# Altium footprint library SMD_Lib.PcbLib: 7 footprints
Each footprint in its own frame and in the unit in brackets; x right, y up, seen from the top. Pads: shape width x height; smd on the part's side, far side on the other; paste and mask are expansions set on the pad; w line width, h text height; cw(c..) or ccw(c..) is an arc to the next point about the centre after c.
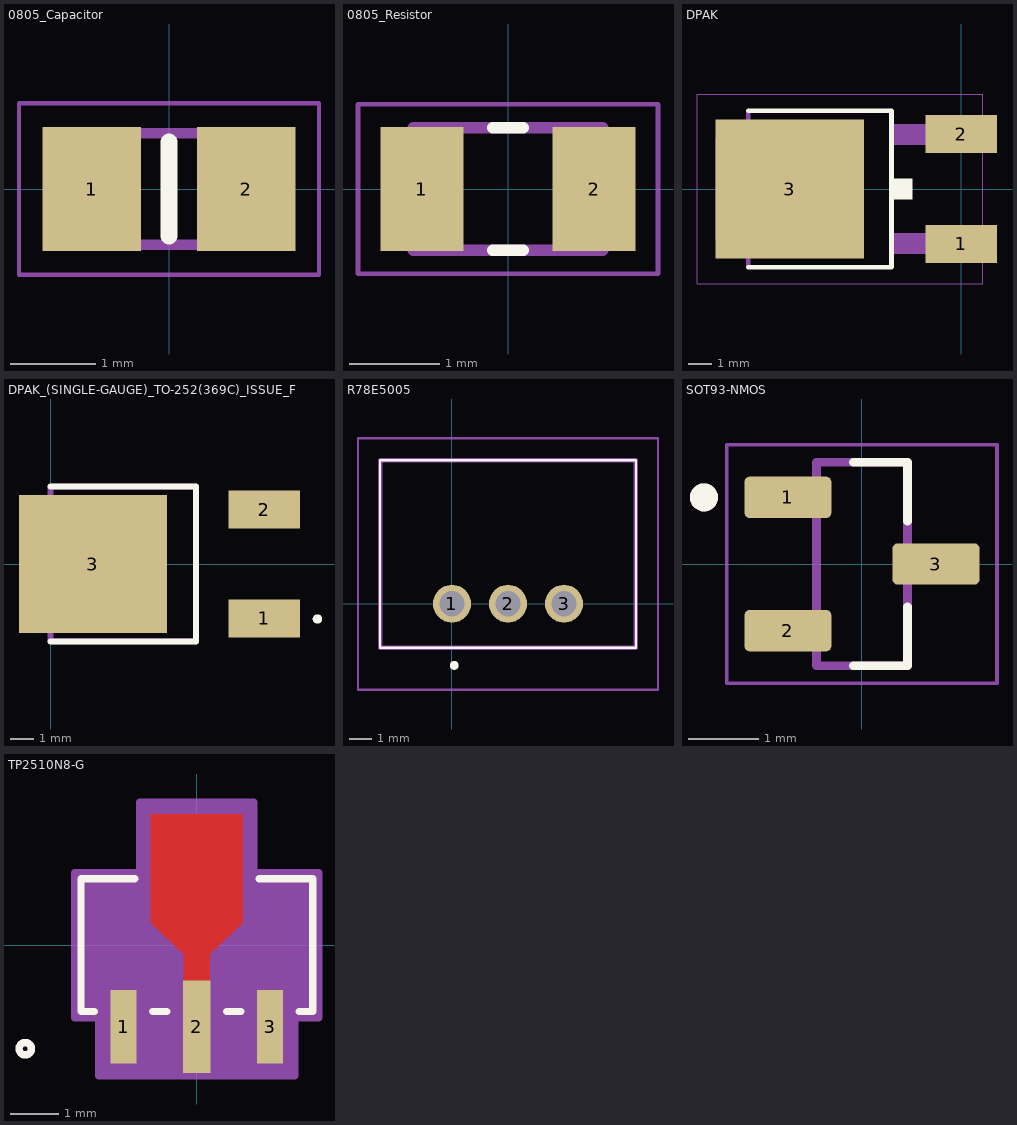
[diagram p0: the footprints below, top view; thin cyan lines are the x and y axes]

## 0805_Capacitor [mm]
pads (2):
  rect 1.15x1.45 smd: 1(-0.9,0) 2(0.9,0)
Top Overlay:
  lines w0.2: 0,-0.55 0,0.55
Mechanical 13:
  region: -0.5,-0.65 -1,-0.65 -1,0.65 -0.5,0.65
  region: 1,-0.65 0.5,-0.65 0.5,0.65 1,0.65
  lines w0.127: -1,-0.65 1,-0.65 1,0.65 -1,0.65 -1,-0.65
Mechanical 15:
  lines w0.05: -1.75,-1 1.75,-1 1.75,1 -1.75,1 -1.75,-1
3D body "CL21B104KBCNNNC.STEP": height 1.23, standoff -0.02, extent -1,-0.635 1,0.715

## 0805_Resistor [mm]
pads (2):
  rect 0.92x1.38 smd: 1(-0.955,0) 2(0.955,0)
Top Overlay:
  lines w0.127: -0.17,-0.68 0.17,-0.68 ; -0.17,0.68 0.17,0.68
Mechanical 13:
  lines w0.127: -1.05,-0.68 1.05,-0.68 1.05,0.68 -1.05,0.68 -1.05,-0.68
Mechanical 15:
  lines w0.05: -1.665,-0.94 1.665,-0.94 1.665,0.94 -1.665,0.94 -1.665,-0.94
3D body "step_temp.STEP": height 0.6, standoff 0, extent -1,-0.625 1,0.625

## DPAK [mm]
pads (3):
  rect 3x1.6 smd: 1(0,-2.3) 2(0,2.3)
  rect 6.2x5.8 smd: 3(-7.18,0)
Top Overlay:
  region: -2.058,-0.432 -2.82,-0.432 -2.82,0.432 -2.058,0.432
  lines w0.203: -8.915,-3.277 -2.921,-3.277 -2.921,3.277 -8.915,3.277
Mechanical 13:
  region: 0.078,-2.722 -2.823,-2.722 -2.823,-1.856 0.078,-1.856
  region: 0.075,1.854 -2.82,1.854 -2.82,2.719 0.075,2.719
  region: -9.017,-2.565 -9.728,-2.565 -10.185,-2.108 -10.185,2.108 -9.728,2.565 -9.017,2.565
  lines w0.203: -8.915,-3.277 -8.915,3.277 ; -10.185,-2.108 -9.728,-2.565 -9.017,-2.565 -9.017,2.565 -9.728,2.565 -10.185,2.108 -10.185,-2.108
Mechanical 15:
  lines w0.051: -11.063,-3.973 -11.063,3.973 0.903,3.973 0.903,-3.973 -11.063,-3.973
3D body "step_temp.STEP": height 2.39, standoff 0, extent -4.953,-3.25 4.953,3.25

## DPAK_(SINGLE-GAUGE)_TO-252(369C)_ISSUE_F [mm]
pads (3):
  rect 3x1.6 smd: 1(8.95,-2.285) 2(8.95,2.285)
  rect 6.2x5.8 smd: 3(1.77,0)
Top Overlay:
  circle w0.254: c11.182,-2.308 r0.068
  lines w0.254: 0,-3.25 6.1,-3.25 6.1,3.25 0,3.25
Mechanical 13:
  lines w0.254: 0,-3.25 6.1,-3.25 6.1,3.25 0,3.25 0,-3.25
3D body "NVD5C478NT4G.stp": height 2.51, standoff 0, extent -0.26,-3.365 10.235,3.365

## R78E5005 [mm]
pads (3):
  round 1.725 hole 1.15: 1(0,0) 2(2.54,0) 3(5.08,0)
Top Overlay:
  lines w0.1: -3.26,-2 -3.26,6.5 8.34,6.5 8.34,-2 -3.26,-2
  lines w0.2: 0,-2.8 cw(c0.1,-2.8) 0.2,-2.8 cw(c0.1,-2.8) 0,-2.8
Mechanical 13:
  lines w0.2: -3.26,-2 -3.26,6.5 8.34,6.5 8.34,-2 -3.26,-2
Mechanical 15:
  lines w0.1: -4.26,-3.9 -4.26,7.5 ; -4.26,-3.9 9.34,-3.9 ; -4.26,-3.9 -4.26,7.5 ; -4.26,-3.9 9.34,-3.9 ; -4.26,7.5 9.34,7.5 ; -4.26,7.5 9.34,7.5 ; 9.34,-3.9 9.34,7.5 ; 9.34,-3.9 9.34,7.5
3D body "R-78E5.0-0.5.stp": height 10.86, standoff -3.64, extent -3.345,-1.969 8.255,6.541

## SOT93-NMOS [mm]
height 1.12
pads (3):
  rrect25% 1.24x0.59 smd: 1(-1.055,0.95) 2(-1.055,-0.95) 3(1.055,0)
Top Overlay:
  circle w0.2: c-2.25,0.95 r0.1
  lines w0.127: -0.12,-1.45 0.65,-1.45 0.65,-0.61 ; -0.12,1.45 0.65,1.45 0.65,0.61
Mechanical 13:
  circle w0.2: c-2.25,0.95 r0.1
  lines w0.127: -0.65,-1.45 -0.65,1.45 0.65,1.45 0.65,-1.45 -0.65,-1.45
Mechanical 15:
  lines w0.05: -1.925,-1.7 -1.925,1.7 1.925,1.7 1.925,-1.7 -1.925,-1.7
3D body "step_temp.STEP": height 1.12, standoff 0, extent -1.185,-1.45 1.185,1.45

## TP2510N8-G [mm]
pads (3):
  rect 0.531x1.505 smd paste+0 mask+0: 1(-1.5,-1.673) 3(1.5,-1.673)
  rect 0.56x1.9 smd paste+0 mask+0: 2(0,-1.673)
Top Layer:
  region: 0.265,-1.232 -0.265,-1.232 -0.265,-0.191 -0.94,0.459 -0.94,2.68 -0.483,2.68 0.483,2.68 0.94,2.68 0.94,0.459 0.265,-0.191
Top Overlay:
  circle w0.152: c-3.518,-2.121 r0.127
  lines w0.152: -2.098,-1.359 -2.375,-1.359 -2.375,1.359 -1.273,1.359 ; -0.902,-1.359 -0.613,-1.359 ; 0.613,-1.359 0.902,-1.359 ; 1.273,1.359 2.375,1.359 2.375,-1.359 2.098,-1.359
Top Paste:
  region: 0.265,-1.232 -0.265,-1.232 -0.265,-0.191 -0.94,0.459 -0.94,2.68 0.94,2.68 0.94,0.459 0.265,-0.191
Top Solder:
  region: 0.265,-1.232 -0.265,-1.232 -0.265,-0.191 -0.94,0.459 -0.94,2.68 0.94,2.68 0.94,0.459 0.265,-0.191
Mechanical 13:
  circle w0: c-1.994,-0.978 r0.127
  lines w0.025: -2.248,-1.232 -2.248,1.232 2.248,1.232 2.248,-1.232 -2.248,-1.232 ; -1.74,-2.432 -1.26,-2.432 -1.26,-1.232 -1.74,-1.232 -1.74,-2.432 ; -0.24,-2.432 0.24,-2.432 0.24,-1.232 -0.24,-1.232 -0.24,-2.432 ; 1.26,-2.432 1.74,-2.432 1.74,-1.232 1.26,-1.232 1.26,-2.432
Mechanical 15:
  region: -2.502,-1.486 -2.502,1.486 -1.169,1.486 -1.169,2.934 1.169,2.934 1.169,1.486 2.502,1.486 2.502,-1.486 2.008,-1.486 2.008,-2.68 -2.008,-2.68 -2.008,-1.486
  lines w0.152: -2.502,-1.486 -2.008,-1.486 -2.008,-2.68 2.008,-2.68 2.008,-1.486 2.502,-1.486 2.502,1.486 1.169,1.486 1.169,2.934 -1.169,2.934 -1.169,1.486 -2.502,1.486 -2.502,-1.486